# EAGLE library part LT1001 (library act-global-nolan)
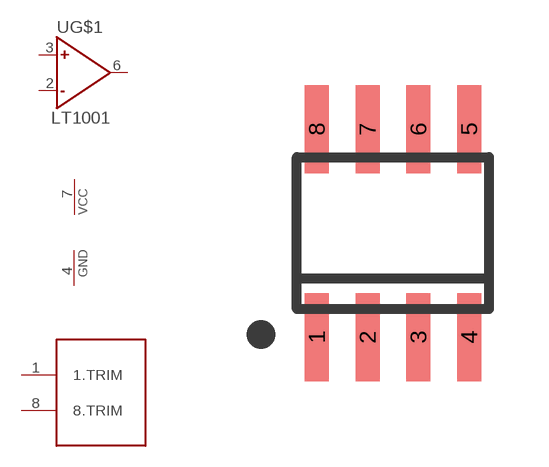
[diagram p51: symbol with the pads of SO08; footprint SO08]

Designator prefix -; gates G$1=OPAMP G$2=PWRN G$3=LT1001

## LT1001  [SO08]
1  G$3:1.TRIM
2  G$1:-
3  G$1:+
4  G$2:GND  pwr
6  G$1:OUT
7  G$2:VCC  pwr
8  G$3:8.TRIM

## Footprint SO08 (pad centres in mm)
SMALL OUTLINE INTEGRATED CIRCUIT body 3.9 mm/JEDEC MS-012AA
smd 0.6 x 2.2: 1 -1.905,-2.6; 2 -0.635,-2.6; 3 0.635,-2.6; 4 1.905,-2.6; 5 1.905,2.6; 6 0.635,2.6; 7 -0.635,2.6; 8 -1.905,2.6